# Altium schematic symbol library LTST-S270KGKT.SchLib: 1 symbol
Pins are listed as number, name and electrical type; pins without a type are passive.

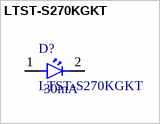
[diagram p0: symbol LTST-S270KGKT]

## LTST-S270KGKT
designator D?  Max Current: 30mA
LED GREEN CLEAR CHIP SMD R/A; MFR: Lite-On Inc.; Max Temp: 85; Min Temp: -30; Forward Voltage: 2V; PN: LTST-S270KGKT; Color: GREEN; Package: LTST-S270KGKT; Footprint: LTST-S270KGKT; ComponentLink1Description: Datasheet; ComponentLink1URL: https://optoelectronics.liteon.com/upload/download/DS22-2000-226/LTST-S270KGKT.pdf; Supplier 1: Digi-Key; Supplier Part Number 1: 160-1478-1-ND
footprint LTST-S270KGKT
pins: 1, 2